# EAGLE library part IDC-06 (library common)
CONNECTOR 6-pin series 057 contact pc board low profile headers
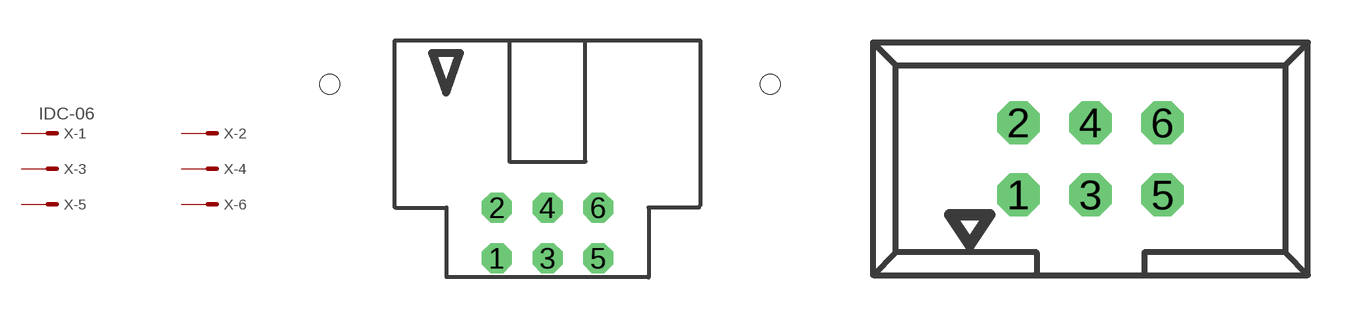
[diagram p17: symbol with the pads of 057-006-0; footprints 057-006-0, 057-006-1]

Designator prefix X; gates -1=MV-2 -2=M-2 -3=M-2 -4=M-2 -5=M-2 -6=M-2

## IDC-060 (OC_FARNELL: unknown; OC_NEWARK: unknown)  [057-006-0]
1  -1:S  pas
2  -2:S  pas
3  -3:S  pas
4  -4:S  pas
5  -5:S  pas
6  -6:S  pas

## IDC-061 (OC_FARNELL: unknown; OC_NEWARK: unknown)  [057-006-1]
Pads as for 057-006-0

## Footprint 057-006-0 (pad centres in mm)
CONNECTOR series 057 contact pc board low profile headers angled
drill 1 octagon: 1 -2.54,-5.08; 2 -2.54,-2.54; 3 0,-5.08; 4 0,-2.54; 5 2.54,-5.08; 6 2.54,-2.54
hole 1 at -10.94,3.66
hole 1 at 11.19,3.66

## Footprint 057-006-1 (pad centres in mm)
CONNECTOR series 057 contact pc board low profile headers straight
drill 1 octagon: 1 -2.54,-1.27; 2 -2.54,1.27; 3 0,-1.27; 4 0,1.27; 5 2.54,-1.27; 6 2.54,1.27